# Altium footprint library 电感.PCBLIB: 32 footprints (part 1 of 2)
Each footprint in its own frame and in the unit in brackets; x right, y up, seen from the top. Pads: shape width x height; smd on the part's side, far side on the other; paste and mask are expansions set on the pad; w line width, h text height; cw(c..) or ccw(c..) is an arc to the next point about the centre after c.
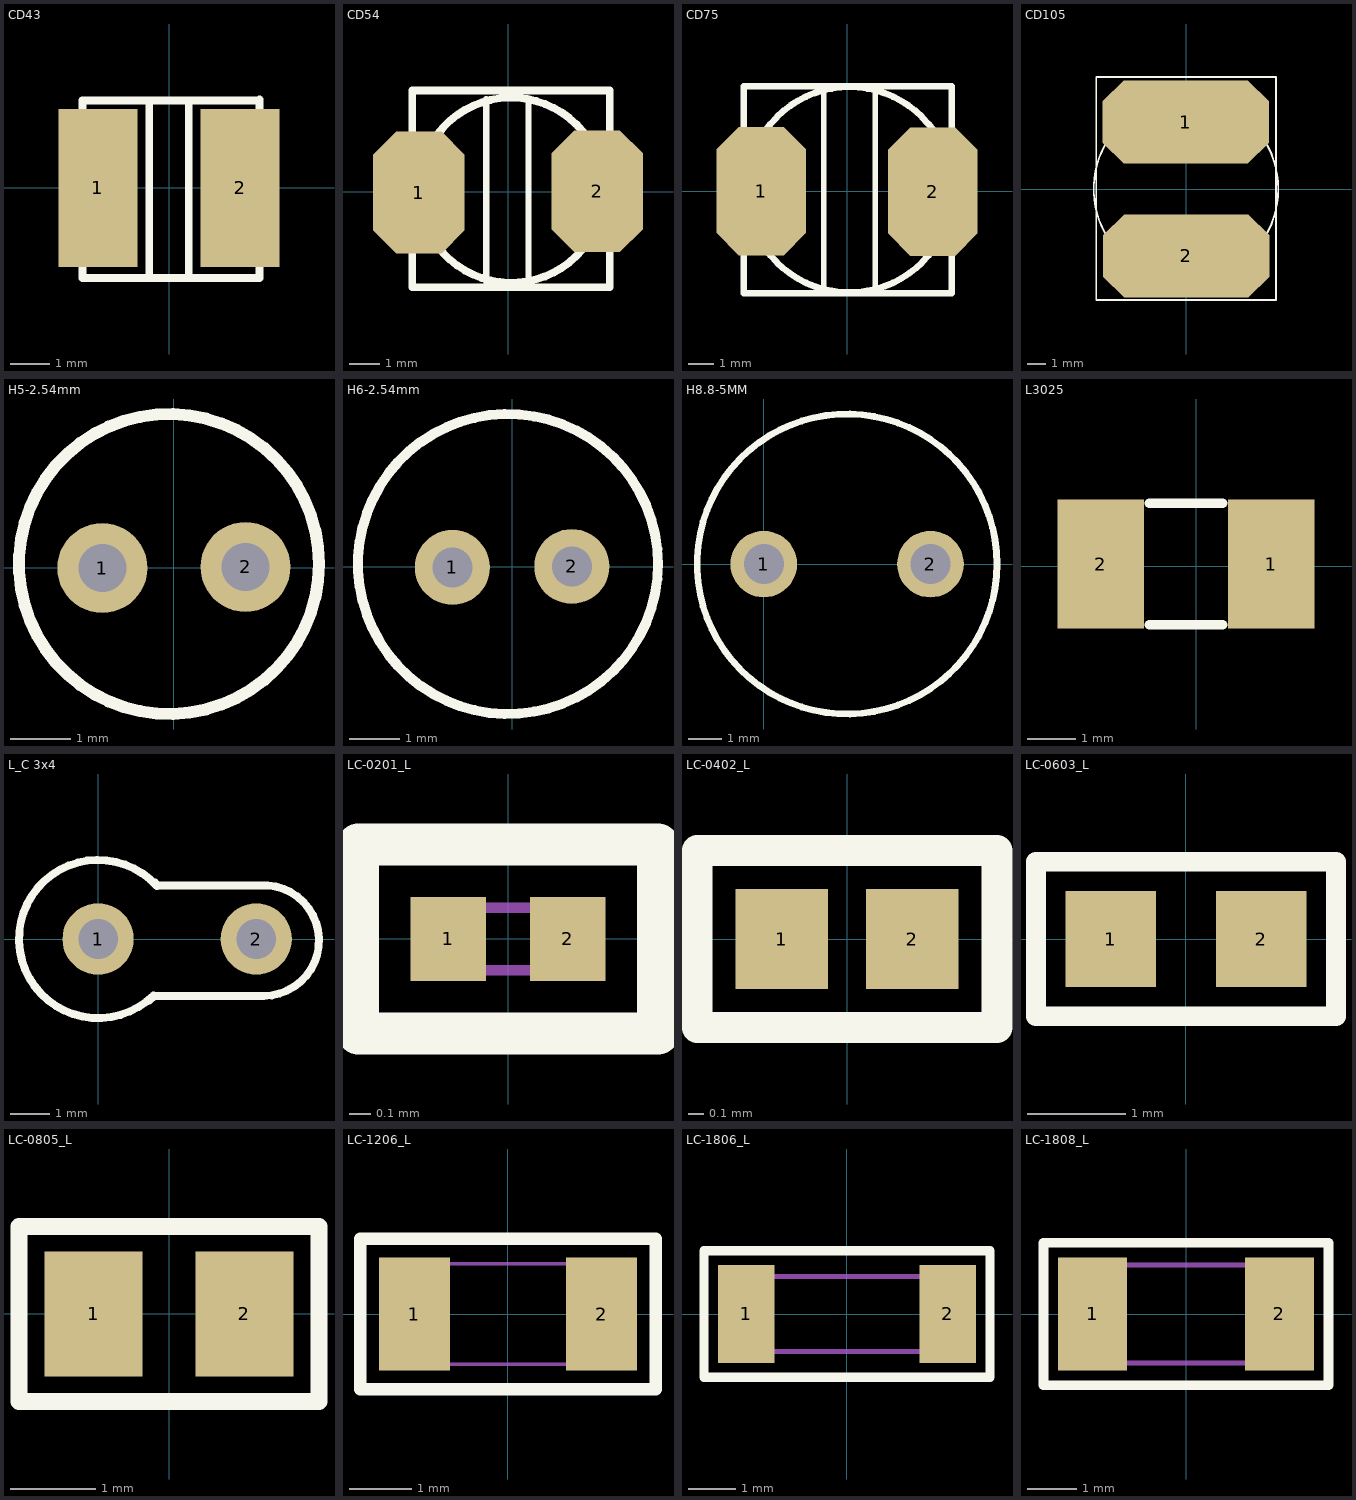
[diagram p0: the footprints below, top view; thin cyan lines are the x and y axes]

## CD43 [mm]
pads (2):
  rect 2x4 smd: 1(-1.8,0) 2(1.8,0)
TopOverlay:
  lines w0.2: -2.197,2.212 2.292,2.212 ; -2.192,2.207 -2.192,-2.28 2.29,-2.28 2.29,2.236 ; -0.5,-2.28 -0.5,2.212 ; 0.5,-2.28 0.5,2.212
MultiLayer:
  pour cut-out: -2.859,2.333 2.859,2.333 2.879,2.313 2.879,-2.414 2.859,-2.434 -2.839,-2.434 -2.919,-2.354 -2.919,2.294 -2.839,2.374

## CD54 [mm]
pads (2):
  oct 3x4 smd: 1(-2.926,-0.022) 2(2.926,0.022)
TopOverlay:
  circle w0.254: c0.105,0.053 r3.041
  lines w0.2: -0.714,-2.947 -0.714,3.054 ; 0.679,-2.947 0.679,3.054
  lines w0.254: -3.143,-3.132 -3.143,3.325 3.346,3.325 3.346,-3.132 -3.143,-3.132
MultiLayer:
  pour cut-out: -3.209,3.363 3.395,3.363 3.412,3.38 3.412,-3.031 3.347,-3.096 -3.047,-3.096 -3.144,-3.193 -3.144,3.331

## CD75 [mm]
pads (2):
  oct 3.5x5 smd: 1(-3.339,0.011) 2(3.339,-0.011)
TopOverlay:
  circle w0.254: c0.097,0.063 r4
  lines w0.2: -1.191,-3.96 -1.141,-3.91 ; -0.903,-3.91 -0.903,4.096 ; 1.097,-3.892 1.097,4.114
  lines w0.254: -4.015,-3.96 4.084,-3.96 4.084,4.096 -4.015,4.096 -4.015,-3.96
MultiLayer:
  pour cut-out: -4.069,4.15 3.988,4.15 4.049,4.089 4.049,-3.909 4.089,-3.949 -4.089,-3.949 -4.109,-3.969 -4.109,3.929 -4.029,4.009

## CD105 [mm]
pads (2):
  oct 9x4.5 smd: 1(-0.014,3.63) 2(0.014,-3.63)
TopOverlay:
  circle w0.1: c0,0 r5
  lines w0.1: -4.866,-6.011 -4.866,6.071 4.872,6.071 4.872,-6.011 -4.866,-6.011
MultiLayer:
  pour cut-out: 4.83,6.037 4.848,6.055 4.848,-5.925 4.885,-5.962 -4.883,-5.962 -4.883,6 -4.846,6.037

## H5-2.54mm [mm]
pads (2):
  round 1.5 hole 0.8: 1(-1.194,-0.009) 2(1.194,0.009)
TopOverlay:
  circle w0.2: c-0.082,0.059 r2.5

## H6-2.54mm [mm]
pads (2):
  round 1.5 hole 0.8: 1(-1.194,-0.009) 2(1.194,0.009)
TopOverlay:
  circle w0.2: c-0.082,0.059 r3

## H8.8-5MM [mm]
pads (2):
  round 2 hole 1.2: 1(0,0) 2(5,0)
TopOverlay:
  circle w0.2: c2.496,0.003 r4.5

## L3025 [mm]
pads (2):
  rect 1.8x2.7 smd: 1(1.56,0.042) 2(-1.996,0.042)
TopOverlay:
  lines w0.2: -0.98,-1.228 0.544,-1.228 ; -0.98,1.312 0.544,1.312

## L_C 3x4 [mm]
pads (2):
  round 1.8 hole 1: 1(0,0) 2(4,0)
TopOverlay:
  lines w0.2: 1.292,-1.562 1.415,-1.439 4.186,-1.439 ccw(c4.186,-0.039) 4.284,1.358 1.507,1.358 1.435,1.43 ; 1.403,-1.426 cw(c0,0) 1.486,1.339

## LC-0201_L [mm]
pads (2):
  rect 0.36x0.4 smd mask+0.051: 1(-0.285,0) 2(0.285,0)
TopOverlay:
  lines w0.2: -0.715,-0.45 -0.715,0.45 0.715,0.45 0.715,-0.45 -0.715,-0.45
Mechanical13:
  lines w0.05: -0.3,-0.15 0.3,-0.15 0.3,0.15 -0.3,0.15 -0.3,-0.15

## LC-0402_L [mm]
pads (2):
  rect 0.6x0.65 smd mask+0.051: 1(-0.425,0) 2(0.425,0)
TopOverlay:
  lines w0.2: -0.975,-0.575 0.975,-0.575 0.975,0.575 -0.975,0.575 -0.975,-0.575
3D body: height 0.36, standoff -0.01, extent -0.512,-0.262 0.538,0.263

## LC-0603_L [mm]
pads (2):
  rect 0.93x0.98 smd: 1(-0.77,0) 2(0.77,0)
TopOverlay:
  lines w0.2: -1.535,-0.79 -1.535,0.79 1.535,0.79 1.535,-0.79 -1.535,-0.79
3D body: height 0.46, standoff -0.01, extent -0.825,-0.412 0.825,0.413

## LC-0805_L [mm]
pads (2):
  rect 1.16x1.47 smd: 1(-0.89,0) 2(0.89,0)
TopOverlay:
  lines w0.2: -1.77,-1.035 1.77,-1.035 1.77,1.035 -1.77,1.035 -1.77,-1.035
3D body: height 0.6, standoff -0.02, extent -1.022,-0.637 1.028,0.638

## LC-1206_L [mm]
pads (2):
  rect 1.13x1.8 smd: 1(-1.49,0) 2(1.49,0)
TopOverlay:
  lines w0.2: -2.355,-1.2 2.355,-1.2 2.355,1.2 -2.355,1.2 -2.355,-1.2
Mechanical13:
  lines w0.05: -1.6,-0.8 1.6,-0.8 1.6,0.8 -1.6,0.8 -1.6,-0.8

## LC-1806_L [mm]
pads (2):
  rect 1.2x2.1 smd: 1(-2.15,0) 2(2.15,0)
TopOverlay:
  lines w0.2: -3.05,-1.35 -3.05,1.35 3.05,1.35 3.05,-1.35 -3.05,-1.35
Mechanical13:
  lines w0.1: -2.25,-0.8 -2.25,0.8 2.25,0.8 2.25,-0.8 -2.25,-0.8

## LC-1808_L [mm]
pads (2):
  rect 1.4x2.3 smd: 1(-1.9,0) 2(1.9,0)
TopOverlay:
  lines w0.2: -2.9,-1.45 2.9,-1.45 2.9,1.45 -2.9,1.45 -2.9,-1.45
Mechanical13:
  lines w0.1: -2.25,-1 2.25,-1 2.25,1 -2.25,1 -2.25,-1